# Altium footprint library CUI PJ-102AH.PCBLIB: 1 footprints
Each footprint in its own frame and in the unit in brackets; x right, y up, seen from the top. Pads: shape width x height; smd on the part's side, far side on the other; paste and mask are expansions set on the pad; w line width, h text height; cw(c..) or ccw(c..) is an arc to the next point about the centre after c.
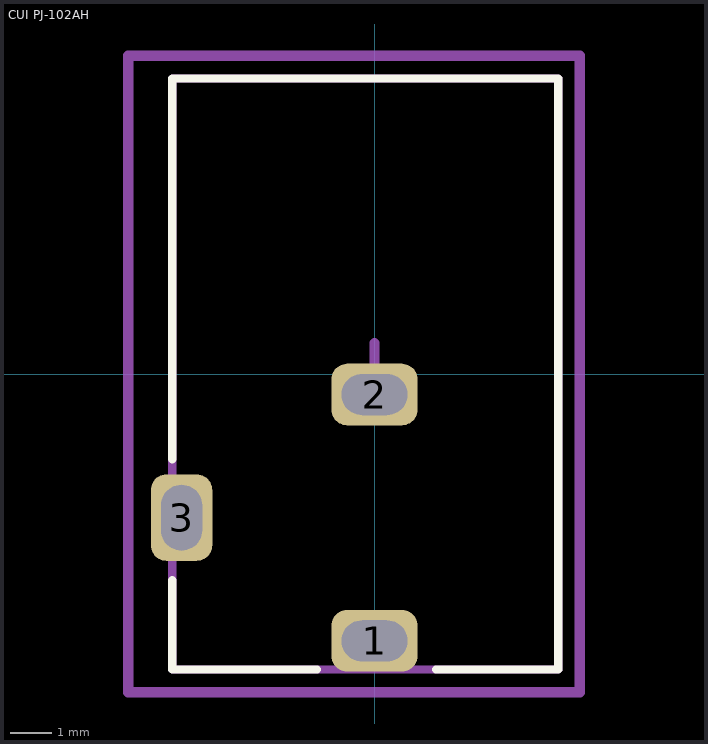
[diagram p0: the footprint, top view; thin cyan lines are the x and y axes]

## CUI PJ-102AH [mm] "DC Barrel Jack W/ Switch 2.0x5.5"
height 11
pads (3):
  rrect50% 2.1x1.5 hole 1 slot 1.6 at 0 deg: 1(0,-6.5) 2(0,-0.5)
  rrect50% 1.5x2.1 hole 1 slot 1.6 at 90 deg: 3(-4.7,-3.5)
Top Overlay:
  lines w0.2: -4.925,-5.025 -4.925,-7.2 -1.4,-7.2 ; -4.925,-2.075 -4.925,7.2 4.475,7.2 4.475,-6.525 4.475,-7.2 1.5,-7.2
Mechanical 1:
  lines w0.2: -4.925,-7.2 4.475,-7.2 4.475,7.2 -4.925,7.2 -4.925,-7.2
Mechanical 15:
  lines w0.254: -0.75,0 0,0 ; 0,-0.75 0,0 ; 0,0.75 0,0 ; 0.75,0 0,0 ; -6,-7.75 5,-7.75 5,7.75 -6,7.75 -6,-3.5 -6,-7.75
3D body "CUI-PJ-102AH.step": height 11, standoff -3.5, extent -4.925,-7.2 4.475,7.2